# Altium footprint library Voltage Taps V0.1.PcbLib: 1 footprints
Each footprint in its own frame and in the unit in brackets; x right, y up, seen from the top. Pads: shape width x height; smd on the part's side, far side on the other; paste and mask are expansions set on the pad; w line width, h text height; cw(c..) or ccw(c..) is an arc to the next point about the centre after c.
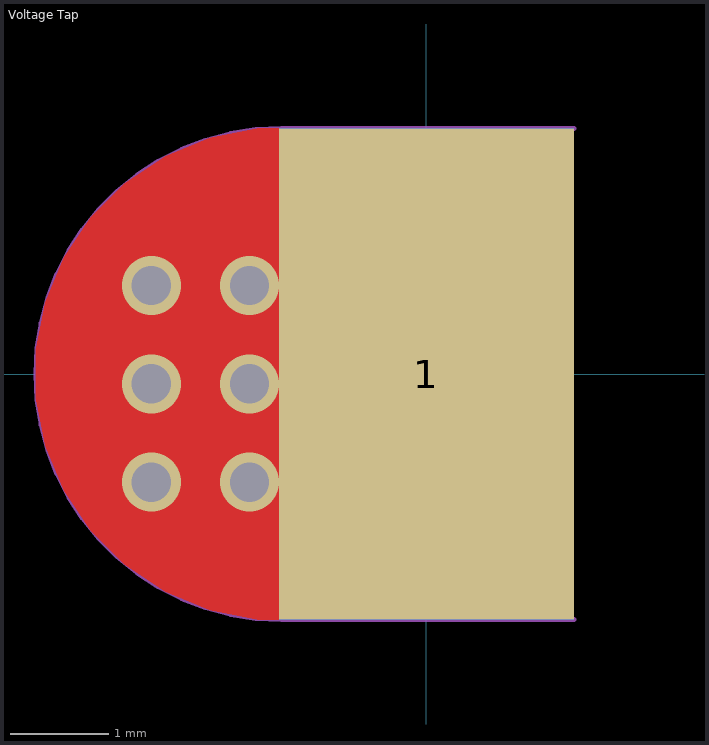
[diagram p0: the footprint, top view; thin cyan lines are the x and y axes]

## Voltage Tap [mm] "Voltage Tap"
pads (2):
  rect 3x5 smd mask+0: 1(0,0)
  rect 3x5 smd far side mask+0: 1(0,0)
via -2.8,-1.1 diameter 0.6 hole 0.4
via -1.8,-1.1 diameter 0.6 hole 0.4
via -1.8,0.9 diameter 0.6 hole 0.4
via -2.8,0.9 diameter 0.6 hole 0.4
via -1.8,-0.1 diameter 0.6 hole 0.4
via -2.8,-0.1 diameter 0.6 hole 0.4
Top Layer:
  region: -1.475,2.5 -1.475,-2.5 -1.721,-2.5 -2.204,-2.404 -2.659,-2.215 -3.069,-1.942 -3.417,-1.594 -3.69,-1.184 -3.879,-0.729 -3.975,-0.246 -3.975,0.246 -3.879,0.729 -3.69,1.184 -3.417,1.594 -3.069,1.942 -2.659,2.215 -2.204,2.404 -1.721,2.5
Bottom Layer:
  region: -1.475,2.5 -1.475,-2.5 -1.721,-2.5 -2.204,-2.404 -2.659,-2.215 -3.069,-1.942 -3.417,-1.594 -3.69,-1.184 -3.879,-0.729 -3.975,-0.246 -3.975,0.246 -3.879,0.729 -3.69,1.184 -3.417,1.594 -3.069,1.942 -2.659,2.215 -2.204,2.404 -1.721,2.5
  region: -1.475,2.5 -1.475,-2.5 -1.721,-2.5 -2.204,-2.404 -2.659,-2.215 -3.069,-1.942 -3.417,-1.594 -3.69,-1.184 -3.879,-0.729 -3.975,-0.246 -3.975,0.246 -3.879,0.729 -3.69,1.184 -3.417,1.594 -3.069,1.942 -2.659,2.215 -2.204,2.404 -1.721,2.5
Top Solder:
  region: -1.475,2.5 -1.475,-2.5 -1.721,-2.5 -2.204,-2.404 -2.659,-2.215 -3.069,-1.942 -3.417,-1.594 -3.69,-1.184 -3.879,-0.729 -3.975,-0.246 -3.975,0.246 -3.879,0.729 -3.69,1.184 -3.417,1.594 -3.069,1.942 -2.659,2.215 -2.204,2.404 -1.721,2.5
Bottom Solder:
  region: -1.475,2.5 -1.475,-2.5 -1.721,-2.5 -2.204,-2.404 -2.659,-2.215 -3.069,-1.942 -3.417,-1.594 -3.69,-1.184 -3.879,-0.729 -3.975,-0.246 -3.975,0.246 -3.879,0.729 -3.69,1.184 -3.417,1.594 -3.069,1.942 -2.659,2.215 -2.204,2.404 -1.721,2.5
Board Shape:
  lines w0.05: 1.5,-2.5 -1.475,-2.5 cw(c-1.475,0) -3.975,0 cw(c-1.475,0) -1.475,2.5 1.5,2.5